# Altium footprint library bourns-magnetics.PcbLib: 2 footprints
Each footprint in its own frame and in the unit in brackets; x right, y up, seen from the top. Pads: shape width x height; smd on the part's side, far side on the other; paste and mask are expansions set on the pad; w line width, h text height; cw(c..) or ccw(c..) is an arc to the next point about the centre after c.
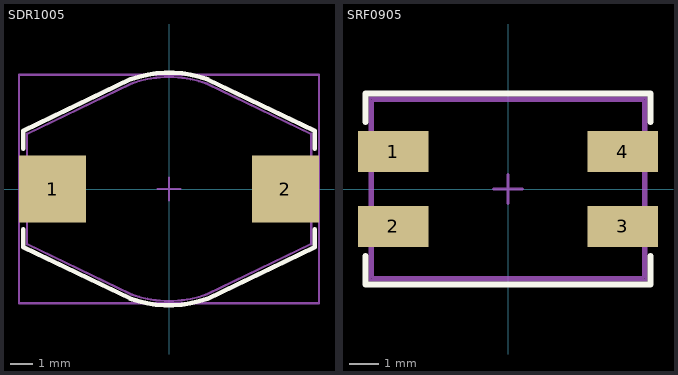
[diagram p0: the footprints below, top view; thin cyan lines are the x and y axes]

## SDR1005 [mm] "SMT Power Inductor"
height 5
pads (2):
  rect 3x3 smd: 1(-5.2,0) 2(5.2,0)
Top Overlay:
  lines w0.2: -6.5,-1.8 -6.5,-2.6 -1.722,-4.9 ccw(c0,0) 1.704,-4.907 ; -6.5,1.8 -6.5,2.6 -1.704,4.909 ; -1.704,4.907 cw(c0,0) 1.722,4.9 6.5,2.6 6.5,1.8 ; 1.704,-4.909 6.5,-2.6 6.5,-1.8
Mechanical 13:
  lines w0.1: -1.709,-4.7 ccw(c0,0) 1.701,-4.703 ; -1.7,-4.7 -6.346,-2.463 -6.346,2.463 -1.7,4.7 ; -1.701,4.703 cw(c0,0) 1.709,4.7 ; -0.5,0 0.5,0 ; 0,-0.5 0,0.5 ; 1.7,-4.7 6.346,-2.463 ; 1.7,4.7 6.346,2.463 ; 6.354,-2.463 6.354,2.463
Mechanical 15:
  lines w0.1: -6.7,-5.1 -6.7,5.1 6.7,5.1 6.7,-5.1 -6.7,-5.1
  text ".Designator" at 0.175,-2.325 h0.5
3D body: height 5, standoff 0, extent -6.35,-5 6.35,5

## SRF0905 [mm]
height 3
pads (4):
  rect 2.4x1.4 smd: 1(-3.9,1.27) 2(-3.9,-1.27) 3(3.9,-1.27) 4(3.9,1.27)
Top Overlay:
  lines w0.2: -4.85,-2.275 -4.85,-3.25 4.85,-3.25 4.85,-2.275 ; -4.85,2.275 -4.85,3.25 4.85,3.25 4.85,2.275
Mechanical 13:
  lines w0.1: -0.5,0 0.5,0 ; 0,-0.5 0,0.5 ; -4.6,-3 -4.6,3 4.6,3 4.6,-3 -4.6,-3
Mechanical 15:
  lines w0.1: -4.7,-3.1 -4.7,3.1 4.7,3.1 4.7,-3.1 -4.7,-3.1
  text ".Designator" at -2.05,-0.15 h0.5
3D body: height 5.02, standoff 0.02, extent -4.6,-3 4.6,3